# Altium footprint library STM32F1_CNC_PcbLib.PcbLib: 33 footprints (part 2 of 3)
Each footprint in its own frame and in the unit in brackets; x right, y up, seen from the top. Pads: shape width x height; smd on the part's side, far side on the other; paste and mask are expansions set on the pad; w line width, h text height; cw(c..) or ccw(c..) is an arc to the next point about the centre after c.
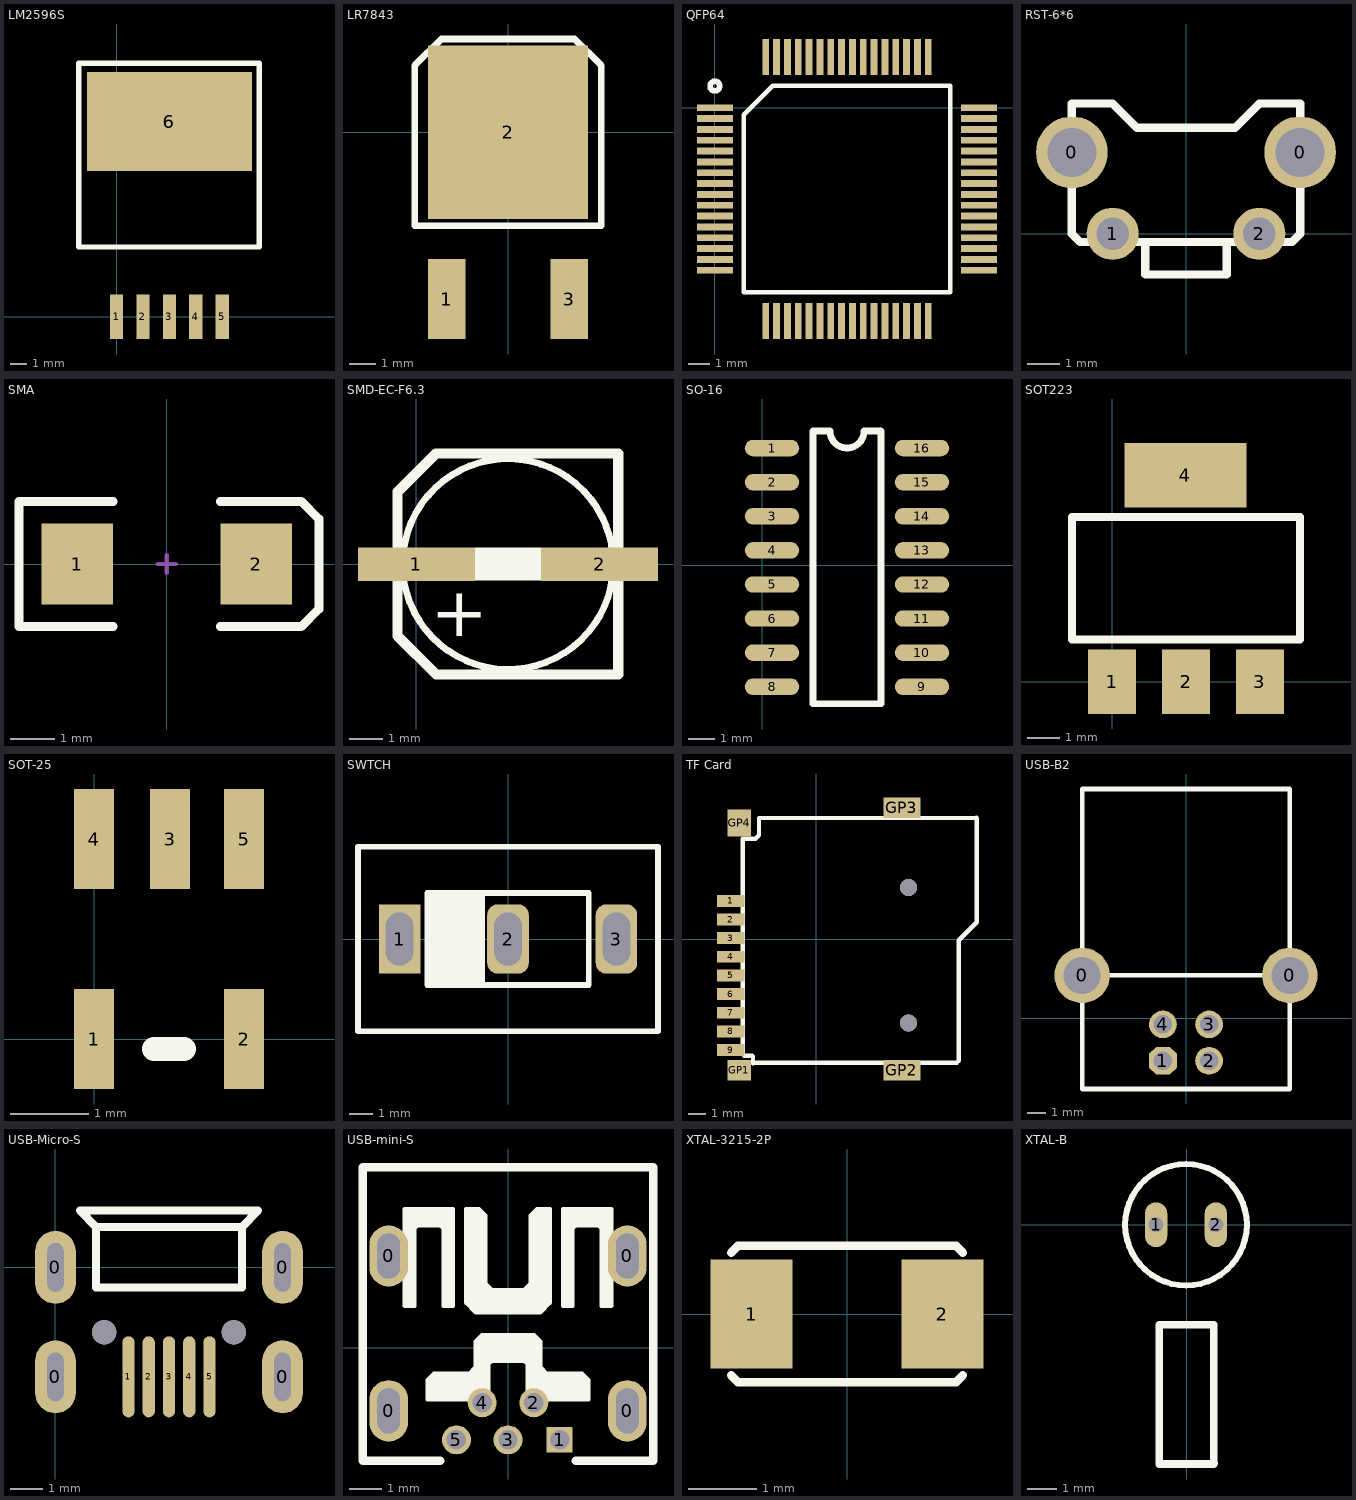
[diagram p1: the footprints below, top view; thin cyan lines are the x and y axes]

## LM2596S [mm]
pads (6):
  rect 0.8x2.7 smd: 1(0,0) 2(1.6,0) 3(3.2,0) 4(4.8,0) 5(6.4,0)
  rect 10x6 smd: 6(3.2,11.8)
Top Overlay:
  lines w0.305: -2.286,4.208 8.636,4.208 8.636,15.333 -2.286,15.333 -2.286,4.208
Bottom Paste:
  lines w0.254: -1.8,4.25 -1.8,8.55 8.2,8.55 8.2,4.25 -1.8,4.25

## LR7843 [mm] "TO-252"
pads (3):
  rect 1.4x3 smd: 1(-2.3,-6.25) 3(2.3,-6.25)
  rect 6x6.5 smd: 2(0,0)
Top Overlay:
  lines w0.254: -3.5,-3.5 -3.5,2.5 -2.5,3.5 2.5,3.5 3.5,2.5 3.5,-3.5 -3.5,-3.5

## QFP64 [mm]
pads (64):
  rect 1.651x0.32 smd: 1(0,0) 2(0,-0.5) 3(0,-1) 4(0,-1.5) 5(0,-2) 6(0,-2.5) 7(0,-3) 8(0,-3.5) 9(0,-4) 10(0,-4.5) 11(0,-5) 12(0,-5.5) 13(0,-6) 14(0,-6.5) 15(0,-7) 16(0,-7.5) 33(12.2,-7.5) 34(12.2,-7) 35(12.2,-6.5) 36(12.2,-6) 37(12.2,-5.5) 38(12.2,-5) 39(12.2,-4.5) 40(12.2,-4) 41(12.2,-3.5) 42(12.2,-3) 43(12.2,-2.5) 44(12.2,-2) 45(12.2,-1.5) 46(12.2,-1) 47(12.2,-0.5) 48(12.2,0)
  rect 0.32x1.651 smd: 17(2.35,-9.85) 18(2.85,-9.85) 19(3.35,-9.85) 20(3.85,-9.85) 21(4.35,-9.85) 22(4.85,-9.85) 23(5.35,-9.85) 24(5.85,-9.85) 25(6.35,-9.85) 26(6.85,-9.85) 27(7.35,-9.85) 28(7.85,-9.85) 29(8.35,-9.85) 30(8.85,-9.85) 31(9.35,-9.85) 32(9.85,-9.85) 49(9.85,2.35) 50(9.35,2.35) 51(8.85,2.35) 52(8.35,2.35) 53(7.85,2.35) 54(7.35,2.35) 55(6.85,2.35) 56(6.35,2.35) 57(5.85,2.35) 58(5.35,2.35) 59(4.85,2.35) 60(4.35,2.35) 61(3.85,2.35) 62(3.35,2.35) 63(2.85,2.35) 64(2.35,2.35)
Top Overlay:
  circle w0.254: c0,1 r0.224
  lines w0.2: 1.335,-8.515 10.865,-8.515 10.865,1.015 2.67,1.015 1.335,-0.32 1.335,-8.515

## RST-6*6 [mm] "侧按按键-6*6mm"
pads (4):
  round 2.2 hole 1.5: 0(-3.5,2.5) 0(3.5,2.5)
  round 1.6 hole 1: 1(-2.25,0) 2(2.25,0)
Top Layer:
  lines w0.254: 3.5,2.5 3.5,2.5
Top Overlay:
  lines w0.254: -1.25,-0.25 -1.25,-1.25 1.25,-1.25 1.25,-0.25 ; -3.5,0 -3.5,4 -2.25,4 -1.5,3.25 1.5,3.25 2.25,4 3.5,4 3.5,0 3.25,-0.25 -3.25,-0.25 -3.5,0

## SMA [mm] "DO-214-AA/SMA; 2 C-Bend Leads; Body 5.3 x 2.8 mm, inc. leads (LxW)"
height 2.54
pads (2):
  rect 1.6x1.8 smd: 1(-2,0) 2(2,0)
Top Overlay:
  lines w0.2: -1.2,-1.4 -3.3,-1.4 -3.3,1.4 -1.2,1.4 ; 1.2,-1.4 3,-1.4 3.4,-1 3.4,1 3,1.4 1.2,1.4
Mechanical 1:
  lines w0.1: -0.2,0 0.2,0 ; 0,-0.2 0,0.2

## SMD-EC-F6.3 [mm]
pads (2):
  rect 3.5x1 smd: 1(0,0) 2(5.475,0)
Top Overlay:
  rectangle: 1.746,-0.496 3.73,0.5
  lines w0.203: 5.667,1.156 ccw(c2.736,0.002) 5.667,1.154
  lines w0.305: 0.587,-3.303 -0.564,-2.152 -0.564,2.163 0.587,3.314 ; 0.589,-3.305 6.036,-3.305 6.036,3.309 0.592,3.309
  text "+" at 0.43,-2.164 h1.5

## SO-16 [mil]
pads (16):
  oval 80x24 smd: 1(14,172) 2(14,122) 3(14,72) 4(14,22) 5(14,-28) 6(14,-78) 7(14,-128) 8(14,-178) 9(234,-178) 10(234,-128) 11(234,-78) 12(234,-28) 13(234,22) 14(234,72) 15(234,122) 16(234,172)
Top Overlay:
  lines w10: 74,-203 74,197 99,197 ccw(c124,197) 149,197 174,197 174,-203 74,-203

## SOT223 [mil]
pads (4):
  rect 59x79 smd: 1(0,0) 2(90.55,0) 3(181.1,0)
  rect 150x79 smd: 4(89.88,253.54)
Top Overlay:
  lines w10: -49.45,52 -49.45,202 230.55,202 230.55,52 -49.45,52

## SOT-25 [mil]
pads (5):
  rect 20x50 smd: 1(0,0) 2(75,0) 3(38,100) 4(0,100) 5(75,100)
Top Overlay:
  lines w12: 30,-5 45,-5

## SWTCH [mm]
pads (3):
  rect 1.8x3 hole 1.2 slot 2.3 at 90 deg: 1(-4.7,0)
  rrect50% 1.8x3 hole 1.2 slot 2.3 at 90 deg: 2(0,0) 3(4.7,0)
Top Overlay:
  rectangle: -3.5,-2 -1,2
  lines w0.254: -6.5,-4 -6.5,4 6.5,4 6.5,-4 -6.5,-4 ; -3.5,-2 3.5,-2 3.5,2 -3.5,2 -3.5,-2

## TF Card [mm]
pads (13):
  rect 1.6x0.7 smd: 1(-5.05,2.25) 2(-5.05,1.15) 3(-5.05,0.05) 4(-5.05,-1.05) 5(-5.05,-2.15) 6(-5.05,-3.25) 7(-5.05,-4.35) 8(-5.05,-5.45) 9(-5.05,-6.55)
  rect 1.4x1.2 smd: GP1(-4.55,-7.75)
  rect 2.2x1.2 smd: GP2(5.05,-7.75) GP3(5.05,7.75)
  rect 1.4x1.6 smd: GP4(-4.55,6.85)
via 5.45,3.05 diameter 1 hole 1
via 5.45,-4.95 diameter 1 hole 1
Top Layer:
  lines w0.254: -3.738,-7.344 -3.688,-7.293
Top Overlay:
  lines w0.254: -3.738,-7.344 -3.738,-6.937 -3.789,-6.886 -4.246,-6.886 -4.348,-6.785 -4.348,5.915 -3.586,5.915 -3.383,6.118 -3.383,7.134 9.45,7.15 ; -3.688,-7.293 8.301,-7.293 8.403,-7.191 8.403,-0.079 9.47,0.988 9.47,7.13

## USB-B2 [mil]
pads (6):
  round 120 hole 80: 0(-225,92.52) 0(225,92.52)
  oct 60x60 hole 40: 1(-50,-92.52)
  round 60 hole 40: 2(50,-92.52) 3(50,-13.78) 4(-50,-13.78)
Top Overlay:
  lines w10: -225,92.52 225,92.52 ; -225,-153.78 225,-153.78 225,496.22 -225,496.22 -225,-153.78

## USB-Micro-S [mil]
pads (11):
  oval 50x90 hole 20 slot 60 at 90 deg: 0(0,-135) 0(0,0) 0(280,-135) 0(280,0)
  oval 15x100 smd: 1(90,-135) 2(115,-135) 3(140,-135) 4(165,-135) 5(190,-135)
  round 30 hole 30 unplated: ""(60,-80) ""(220,-80)
Top Overlay:
  lines w10: 50,50 50,-25 230,-25 230,50 ; 50,50 30,70 250,70 230,50 ; 50,50 230,50

## USB-mini-S [mm]
pads (9):
  oval 1.2x1.9 hole 0.7 slot 1.4 at 90 deg: 0(-3.7,-1.95) 0(-3.7,2.85) 0(3.7,-1.95) 0(3.7,2.85)
  rect 0.8x0.8 hole 0.6: 1(1.6,-2.85)
  round 0.9 hole 0.6: 2(0.8,-1.7) 3(0,-2.85) 4(-0.8,-1.7) 5(-1.6,-2.85)
Top Overlay:
  region: 2.5,-1.599 2.5,-0.999 2.3,-0.799 1.2,-0.799 1,-0.599 1,0.201 0.8,0.401 -0.8,0.401 -1,0.201 -1,-0.599 -1.2,-0.799 -2.3,-0.799 -2.5,-0.999 -2.5,-1.599 -0.8,-1.599 -0.6,-1.399 -0.6,-0.499 -0.5,-0.399 0.5,-0.399 0.6,-0.499 0.6,-1.399 0.8,-1.599
  region: 3.2,1.301 3.2,4.301 1.7,4.301 1.7,1.301 2,1.301 2,3.701 2.1,3.801 2.8,3.801 2.9,3.701 2.9,1.301
  region: -1.7,1.301 -1.7,4.301 -3.2,4.301 -3.2,1.301 -2.9,1.301 -2.9,3.701 -2.8,3.801 -2.1,3.801 -2,3.701 -2,1.301
  region: 1.3,4.301 0.9,4.301 0.7,4.101 0.7,2.001 0.5,1.801 -0.5,1.801 -0.7,2.001 -0.7,4.101 -0.9,4.301 -1.3,4.301 -1.3,1.401 -1,1.101 1,1.101 1.3,1.401
  lines w0.127: -2.8,3.801 -2.9,3.701 -2.9,1.301 -3.2,1.301 -3.2,4.301 -1.7,4.301 -1.7,1.301 -2,1.301 -2,3.701 -2.1,3.801 -2.8,3.801 ; -2.8,3.801 -2.8,3.801 ; -0.8,-1.599 -2.5,-1.599 -2.5,-0.999 -2.3,-0.799 -1.2,-0.799 -1,-0.599 -1,0.201 -0.8,0.401 0.8,0.401 1,0.201 1,-0.599 1.2,-0.799 2.3,-0.799 2.5,-0.999 2.5,-1.599 0.8,-1.599 ; -0.8,-1.599 -0.8,-1.599 ; -0.8,-1.599 -0.6,-1.399 -0.6,-0.499 -0.5,-0.399 0.5,-0.399 0.6,-0.499 0.6,-1.399 0.8,-1.599 ; 0.8,-1.599 0.8,-1.599 ; 2.1,3.801 2.8,3.801 2.9,3.701 2.9,1.301 3.2,1.301 3.2,4.301 1.7,4.301 1.7,1.301 2,1.301 2,3.701 2.1,3.801 ; 2.1,3.801 2.1,3.801 ; -1.3,1.401 -1.3,4.301 -0.9,4.301 -0.7,4.101 -0.7,2.001 -0.5,1.801 0.5,1.801 0.7,2.001 0.7,4.101 0.9,4.301 1.3,4.301 1.3,1.401 1,1.101 -1,1.101 -1.3,1.401
  lines w0.254: -2.1,-3.499 -4.5,-3.499 -4.5,5.601 4.5,5.601 4.5,-3.499 2.1,-3.499

## XTAL-3215-2P [mm] "XTAL-SMT-3.2*1.5mm"
height 0.051
pads (2):
  rect 1.2x1.6 smd paste-0.051 mask+0.051: 1(-1.4,0) 2(1.4,0)
Top Overlay:
  lines w0.127: -1.7,-0.9 -1.6,-1 1.6,-1 1.7,-0.9 ; -1.7,0.9 -1.6,1 1.6,1 1.7,0.9

## XTAL-B [mm]
pads (2):
  oval 0.75x1.5 hole 0.5: 1(-1.024,0.001) 2(0.976,0.001)
Top Overlay:
  circle w0.2: c-0.024,0.001 r2.032
  lines w0.254: 0.926,-7.974 0.901,-7.999 ; 0.901,-7.999 0.901,-3.349 -0.924,-3.349 -0.924,-7.999 0.901,-7.999